# EAGLE library part L3GD20HTR (library jseng)
L3GD20HTR gyroscope
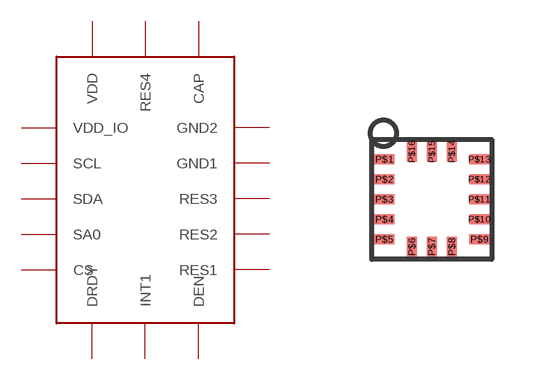
[diagram p10: symbol with the pads of LGA-16; footprint LGA-16]

Designator prefix -

## L3GD20HTR  [LGA-16]
P$1  VDD_IO
P$2  SCL
P$3  SDA
P$4  SA0
P$5  CS
P$6  DRDY
P$7  INT1
P$8  DEN
P$9  RES1
P$10  RES2
P$11  RES3
P$12  GND1
P$13  GND2
P$14  CAP
P$15  RES4
P$16  VDD

## Footprint LGA-16 (pad centres in mm)
Package for L3GD20HTR
smd 0.5 x 0.25: P$1 -1.19,1; P$2 -1.19,0.5; P$3 -1.19,0; P$4 -1.19,-0.5; P$5 -1.19,-1; P$9 1.19,-1; P$10 1.19,-0.5; P$11 1.19,0; P$12 1.19,0.5; P$13 1.19,1
smd 0.25 x 0.5: P$6 -0.5,-1.19; P$7 0,-1.19; P$8 0.5,-1.19; P$14 0.5,1.19; P$15 0,1.19; P$16 -0.5,1.19